# Altium schematic symbol library TPS61088.SchLib: 1 symbol
Pins are listed as number, name and electrical type; pins without a type are passive.

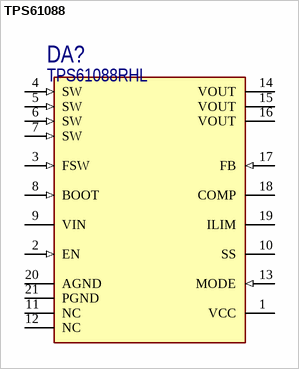
[diagram p0: symbol TPS61088]

## TPS61088
designator DA?, comment TPS61088RHL
Преобразователь постоянного тока повышающий синхронный вход 2.7В...12В выход 4.5В...12.6В 10A
pins: 1 VCC (power), 2 EN (in), 3 FSW (in), 4 SW (in), 5 SW (in), 6 SW (in), 7 SW (in), 8 BOOT (in), 9 VIN (power), 10 SS, 11 NC, 12 NC, 13 MODE (in), 14 VOUT (power), 15 VOUT (power), 16 VOUT (power), 17 FB (in), 18 COMP, 19 ILIM, 20 AGND (power), 21 PGND (power)